# EAGLE library part 610034243021 (library Board_to_Board_Connectors_rev15d)
WR-PHD 2.54mm SMT Dual Socket Header Bottom Entry, 34 Pins=>Code : Con_BTB_SHD_2.54_2_610034243021 <http://katalog.we-online.de/media/images/eican/Con_BTB_SHD_2.54_2_6100xx243021_pf2.jpg> Details see: http://katalog.we-online.de/en/em/610_0xx_243_021 Created 2014-05-30, Karrer Zheng 2014 (C) Würth Elektronik
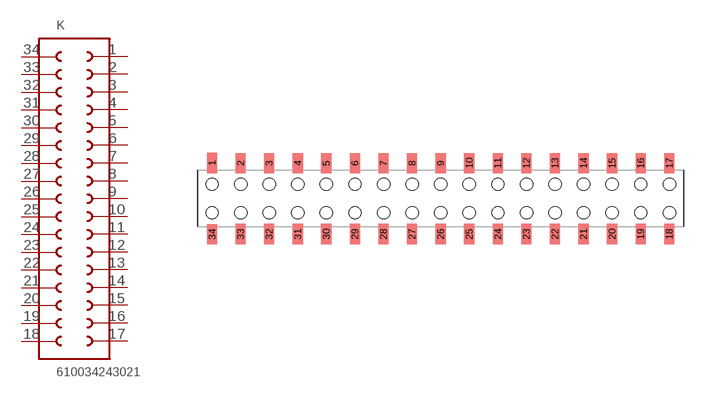
[diagram p316: symbol with the pads of 610034243021; footprint 610034243021]

Designator prefix K

## 610034243021  [610034243021]
1  1  pas
2  2  pas
3  3  pas
4  4  pas
5  5  pas
6  6  pas
7  7  pas
8  8  pas
9  9  pas
10  10  pas
11  11  pas
12  12  pas
13  13  pas
14  14  pas
15  15  pas
16  16  pas
17  17  pas
18  18  pas
19  19  pas
20  20  pas
21  21  pas
22  22  pas
23  23  pas
24  24  pas
25  25  pas
26  26  pas
27  27  pas
28  28  pas
29  29  pas
30  30  pas
31  31  pas
32  32  pas
33  33  pas
34  34  pas

## Footprint 610034243021 (pad centres in mm)
WR-PHD 2.54mm SMT Dual Socket Header Bottom Entry, 34 Pins
smd 0.9 x 1.8: 1 -22.86,3.15; 2 -20.33,3.14; 3 -17.79,3.14; 4 -15.25,3.14; 5 -12.71,3.14; 6 -10.17,3.14; 7 -7.63,3.14; 8 -5.09,3.14; 9 -2.55,3.14; 10 -0.01,3.14; 11 2.53,3.14; 12 5.07,3.14; 13 7.61,3.14; 14 10.15,3.14; 15 12.69,3.14; 16 15.23,3.14; 17 17.77,3.14; 18 17.77,-3.16; 19 15.23,-3.16; 20 12.69,-3.16; 21 10.15,-3.16; 22 7.61,-3.16; 23 5.07,-3.16; 24 2.53,-3.16; 25 -0.01,-3.16; 26 -2.55,-3.16; 27 -5.09,-3.16; 28 -7.63,-3.16; 29 -10.17,-3.16; 30 -12.71,-3.16; 31 -15.25,-3.16; 32 -17.79,-3.16; 33 -20.33,-3.16; 34 -22.86,-3.17
hole 1.1 at -22.86,1.27
hole 1.1 at -20.32,1.27
hole 1.1 at -20.32,-1.27
hole 1.1 at -22.86,-1.27
hole 1.1 at -17.78,1.27
hole 1.1 at -17.78,-1.27
hole 1.1 at -15.24,1.27
hole 1.1 at -15.24,-1.27
hole 1.1 at -12.7,1.27
hole 1.1 at -12.7,-1.27
hole 1.1 at -10.16,1.27
hole 1.1 at -10.16,-1.27
hole 1.1 at -7.62,1.27
hole 1.1 at -7.62,-1.27
hole 1.1 at -5.08,1.27
hole 1.1 at -5.08,-1.27
hole 1.1 at -2.54,1.27
hole 1.1 at -2.54,-1.27
hole 1.1 at 0,1.27
hole 1.1 at 0,-1.27
hole 1.1 at 2.54,1.27
hole 1.1 at 2.54,-1.27
hole 1.1 at 5.08,1.27
hole 1.1 at 5.08,-1.27
hole 1.1 at 7.62,1.27
hole 1.1 at 7.62,-1.27
hole 1.1 at 10.16,1.27
hole 1.1 at 10.16,-1.27
hole 1.1 at 12.7,1.27
hole 1.1 at 12.7,-1.27
hole 1.1 at 15.24,1.27
hole 1.1 at 15.24,-1.27
hole 1.1 at 17.78,1.27
hole 1.1 at 17.78,-1.27